# Altium schematic symbol library Components - 25.02.24 - 14.16.SchLib: 1 symbol
Pins are listed as number, name and electrical type; pins without a type are passive.

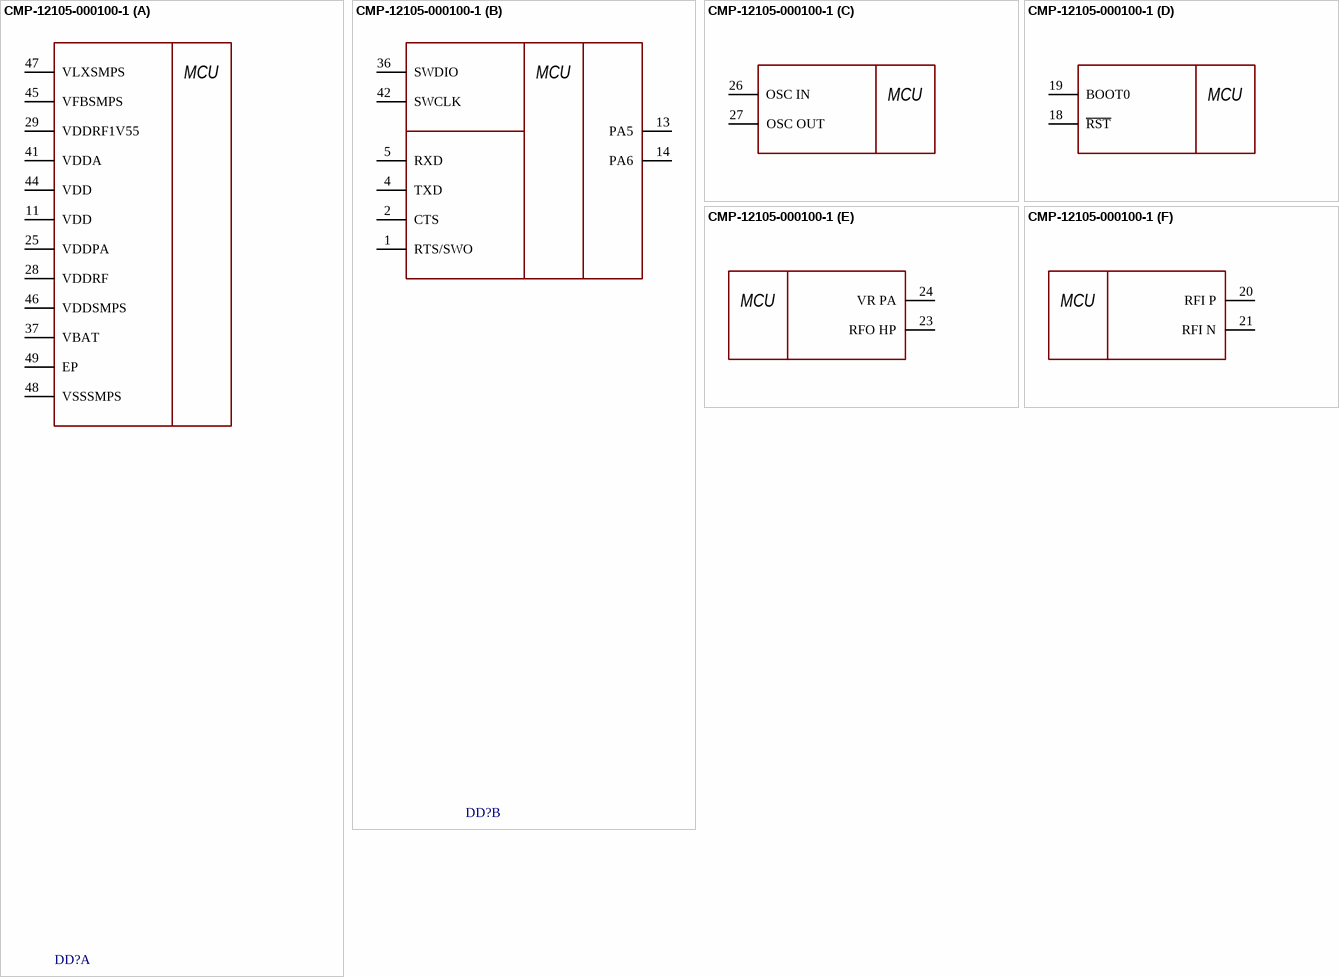
[diagram p0: symbol CMP-12105-000100-1]

## CMP-12105-000100-1
designator DD?, comment STM32WLE5CCU6  (value not drawn)
MULTIPROTOCOL LPWAN 32-BIT ARM C
footprint FP-UFQFPN48-A0B9-IPC_C
footprint FP-UFQFPN48-A0B9-IPC_A
footprint FP-UFQFPN48-A0B9-IPC_B
footprint FP-UFQFPN48-A0B9-MFG
part A pins: 11 VDD (power), 25 VDDPA (power), 28 VDDRF (power), 29 VDDRF1V55 (power), 37 VBAT (power), 41 VDDA (power), 44 VDD (power), 45 VFBSMPS (power), 46 VDDSMPS (power), 47 VLXSMPS (power), 48 VSSSMPS (power), 49 EP (power)
part B pins: 1 RTS/SWO (power), 2 CTS (power), 4 TXD (power), 5 RXD (power), 13 PA5 (power), 14 PA6 (power), 36 SWDIO (power), 42 SWCLK (power)
part C pins: 26 OSC IN, 27 OSC OUT
part D pins: 18 ~{RST} (power), 19 BOOT0 (power)
part E pins: 23 RFO HP, 24 VR PA (power)
part F pins: 20 RFI P, 21 RFI N
part A text: MCU
part B text: MCU
part C text: MCU
part D text: MCU
part E text: MCU
part F text: MCU